# Altium schematic symbol library B2B-PH-K-S.SchLib: 1 symbol
Pins are listed as number, name and electrical type; pins without a type are passive.

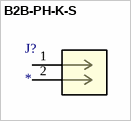
[diagram p0: symbol B2B-PH-K-S]

## B2B-PH-K-S
designator J?
No Description Available; Mfr_Name: JST; RefDes: RefDes; Type: Type
footprint CONN2_B2B-PH-K-S_JST
pins: 1, 2